# Altium footprint library SparkFun-RF.PCBLIB: 68 footprints (part 4 of 5)
Each footprint in its own frame and in the unit in brackets; x right, y up, seen from the top. Pads: shape width x height; smd on the part's side, far side on the other; paste and mask are expansions set on the pad; w line width, h text height; cw(c..) or ccw(c..) is an arc to the next point about the centre after c.
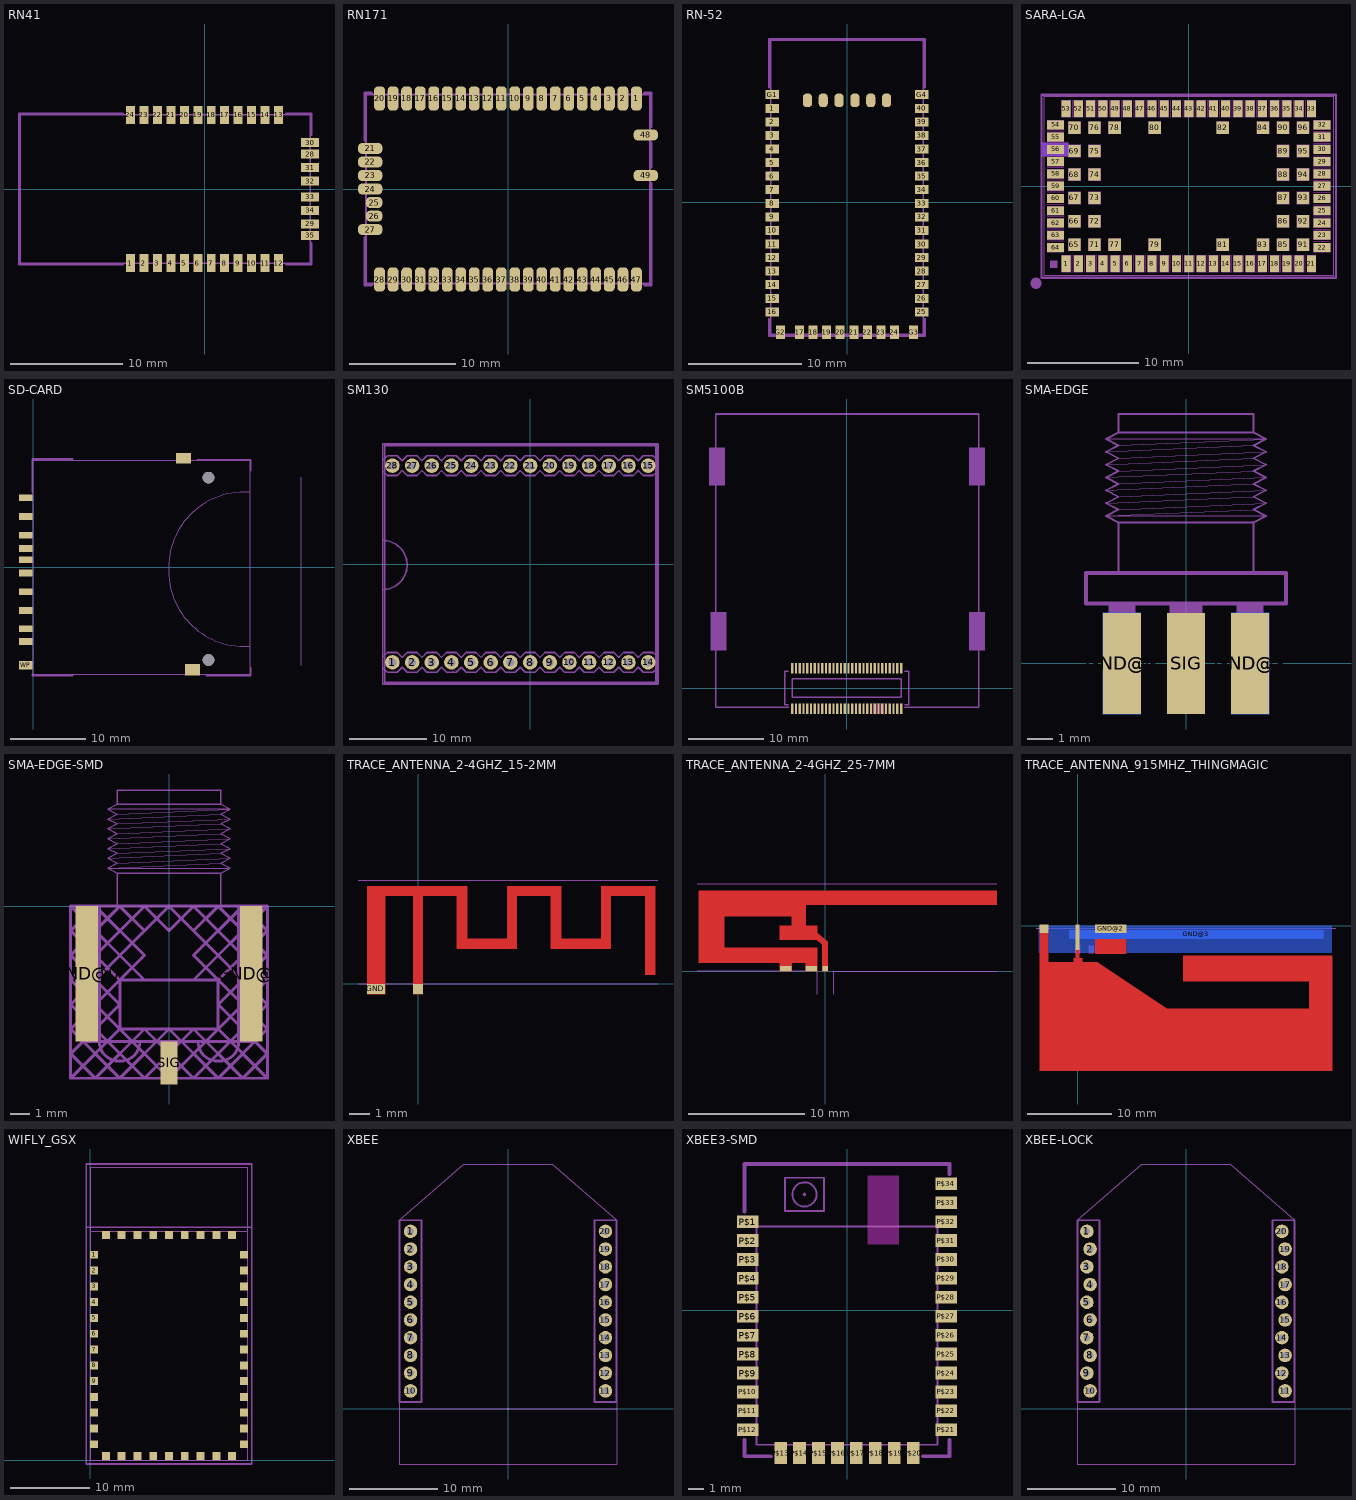
[diagram p3: the footprints below, top view; thin cyan lines are the x and y axes]

## RN41 [mil]
pads (32):
  rect 31.5x62.99 smd: 1(-259.84,-259.84) 2(-212.6,-259.84) 3(-165.35,-259.84) 4(-118.11,-259.84) 5(-70.87,-259.84) 6(-23.62,-259.84) 7(23.62,-259.84) 8(70.87,-259.84) 9(118.11,-259.84) 10(165.35,-259.84) 11(212.6,-259.84) 12(259.84,-259.84) 13(259.84,259.84) 14(212.6,259.84) 15(165.35,259.84) 16(118.11,259.84) 17(70.87,259.84) 18(23.62,259.84) 19(-23.62,259.84) 20(-70.87,259.84) 21(-118.11,259.84) 22(-165.35,259.84) 23(-212.6,259.84) 24(-259.84,259.84)
  rect 62.99x31.5 smd: 28(370.08,122.05) 29(370.08,-122.05) 30(370.08,162.29) 31(370.08,74.8) 32(370.08,27.56) 33(370.08,-27.56) 34(370.08,-74.8) 35(370.08,-162.29)
tDocu:
  lines w5: -645.67,-259.84 -645.67,259.84 370.08,259.84 370.08,-259.84 -645.67,-259.84
tPlace:
  lines w8: -286.3,-264.84 -650.67,-264.84 -650.67,264.84 -286.3,264.84 ; 285.71,-264.84 375.08,-264.84 375.08,-190.47 ; 285.71,264.84 375.08,264.84 375.08,190.47

## RN171 [mil]
pads (49):
  rrect75% 40x90 smd: 1(475,335) 2(425,335) 3(375,335) 4(325,335) 5(275,335) 6(225,335) 7(175,335) 8(125,335) 9(75,335) 10(25,335) 11(-25,335) 12(-75,335) 13(-125,335) 14(-175,335) 15(-225,335) 16(-275,335) 17(-325,335) 18(-375,335) 19(-425,335) 20(-475,335) 28(-475,-335) 29(-425,-335) 30(-375,-335) 31(-325,-335) 32(-275,-335) 33(-225,-335) 34(-175,-335) 35(-125,-335) 36(-75,-335) 37(-25,-335) 38(25,-335) 39(75,-335) 40(125,-335) 41(175,-335) 42(225,-335) 43(275,-335) 44(325,-335) 45(375,-335) 46(425,-335) 47(475,-335)
  rrect75% 90x40 smd: 21(-510,150) 22(-510,100) 23(-510,50) 24(-510,0) 27(-510,-150) 48(510,200) 49(510,50)
  rrect75% 60x40 smd: 25(-495,-50) 26(-495,-100)
Top:
  lines w12: -518,0 -500,0
tDocu:
  lines w8: -525,-350 -525,350 525,350 525,-350 -525,-350
tPlace:
  lines w10: -530,-180 -530,-355 -505,-355 ; -530,180 -530,355 -505,355 ; 505,-355 530,-355 530,20 ; 505,355 530,355 530,230 ; 530,80 530,170

## RN-52 [mil]
pads (50):
  rect 47.24x31.5 smd: 1(-259.84,327.95) 2(-259.84,280.71) 3(-259.84,233.46) 4(-259.84,186.22) 5(-259.84,138.98) 6(-259.84,91.73) 7(-259.84,44.49) 8(-259.84,-2.76) 9(-259.84,-50) 10(-259.84,-97.24) 11(-259.84,-144.49) 12(-259.84,-191.73) 13(-259.84,-238.98) 14(-259.84,-286.22) 15(-259.84,-333.46) 16(-259.84,-380.71) 25(259.84,-380.71) 26(259.84,-333.46) 27(259.84,-286.22) 28(259.84,-238.98) 29(259.84,-191.73) 30(259.84,-144.49) 31(259.84,-97.24) 32(259.84,-50) 33(259.84,-2.76) 34(259.84,44.49) 35(259.84,91.73) 36(259.84,138.98) 37(259.84,186.22) 38(259.84,233.46) 39(259.84,280.71) 40(259.84,327.95) G1(-259.84,375.2) G4(259.84,375.2)
  rect 31.5x47.24 smd: 17(-165.35,-451.57) 18(-118.11,-451.57) 19(-70.87,-451.57) 20(-23.62,-451.57) 21(23.62,-451.57) 22(70.87,-451.57) 23(118.11,-451.57) 24(165.35,-451.57) G2(-232.28,-451.57) G3(232.28,-451.18)
  rrect75% 31.5x47.24 smd: RFG1(-137.8,355.51) RFG2(-82.68,355.51) RFG3(-27.56,355.51) RFG4(27.56,355.51) RFG5(82.68,355.51) RFG6(137.8,355.51)
tDocu:
  lines w5: -265.75,-459.45 -265.75,564.17 265.75,564.17 265.75,-459.45 -265.75,-459.45
tPlace:
  lines w8: -270.75,-405.83 -270.75,-464.45 270.75,-464.45 270.75,-405.83 ; -270.75,400.55 -270.75,569.17 270.75,569.17 270.75,400.55

## SARA-LGA [mil]
pads (96):
  rect 31.5x59.06 smd paste+0: 1(-433.07,-273.62) 2(-389.76,-273.62) 3(-346.46,-273.62) 4(-303.15,-273.62) 5(-259.84,-273.62) 6(-216.54,-273.62) 7(-173.23,-273.62) 8(-129.92,-273.62) 9(-86.61,-273.62) 10(-43.31,-273.62) 11(0,-273.62) 12(43.31,-273.62) 13(86.61,-273.62) 14(129.92,-273.62) 15(173.23,-273.62) 16(216.54,-273.62) 17(259.84,-273.62) 18(303.15,-273.62) 19(346.46,-273.62) 20(389.76,-273.62) 21(433.07,-273.62) 33(433.07,273.62) 34(389.76,273.62) 35(346.46,273.62) 36(303.15,273.62) 37(259.84,273.62) 38(216.54,273.62) 39(173.23,273.62) 40(129.92,273.62) 41(86.61,273.62) 42(43.31,273.62) 43(0,273.62) 44(-43.31,273.62) 45(-86.61,273.62) 46(-129.92,273.62) 47(-173.23,273.62) 48(-216.54,273.62) 49(-259.84,273.62) 50(-303.15,273.62) 51(-346.46,273.62) 52(-389.76,273.62) 53(-433.07,273.62)
  rect 59.06x31.5 smd paste+0: 22(470.47,-216.54) 23(470.47,-173.23) 24(470.47,-129.92) 25(470.47,-86.61) 26(470.47,-43.31) 27(470.47,0) 28(470.47,43.31) 29(470.47,86.61) 30(470.47,129.92) 31(470.47,173.23) 32(470.47,216.54) 54(-470.47,216.54) 55(-470.47,173.23) 56(-470.47,129.92) 57(-470.47,86.61) 58(-470.47,43.31) 59(-470.47,0) 60(-470.47,-43.31) 61(-470.47,-86.61) 62(-470.47,-129.92) 63(-470.47,-173.23) 64(-470.47,-216.54)
  rect 43.31x43.31 smd paste+0: 65(-403.54,-206.69) 66(-403.54,-124.02) 67(-403.54,-41.34) 68(-403.54,41.34) 69(-403.54,124.02) 70(-403.54,206.69) 71(-332.68,-206.69) 72(-332.68,-124.02) 73(-332.68,-41.34) 74(-332.68,41.34) 75(-332.68,124.02) 76(-332.68,206.69) 77(-261.81,-206.69) 78(-261.81,206.69) 79(-120.08,-206.69) 80(-120.08,206.69) 81(120.08,-206.69) 82(120.08,206.69) 83(261.81,-206.69) 84(261.81,206.69) 85(332.68,-206.69) 86(332.68,-124.02) 87(332.68,-41.34) 88(332.68,41.34) 89(332.68,124.02) 90(332.68,206.69) 91(403.54,-206.69) 92(403.54,-124.02) 93(403.54,-41.34) 94(403.54,41.34) 95(403.54,124.02) 96(403.54,206.69)
Top keep-out:
  lines w0.1: -500,-194.88 -440.94,-194.88 ; -500,-151.57 -440.94,-151.57 ; -500,-108.27 -440.94,-108.27 ; -500,-64.96 -440.94,-64.96 ; -500,-21.65 -440.94,-21.65 ; -500,21.65 -440.94,21.65 ; -500,64.96 -440.94,64.96 ; -500,108.27 -440.94,108.27 ; -500,151.57 -440.94,151.57 ; -500,194.88 -440.94,194.88 ; -411.42,-303.15 -411.42,-244.09 ; -411.42,244.09 -411.42,303.15 ; -368.11,-303.15 -368.11,-244.09 ; -368.11,244.09 -368.11,303.15 ; -324.8,-303.15 -324.8,-244.09 ; -324.8,244.09 -324.8,303.15 ; -281.5,-303.15 -281.5,-244.09 ; -281.5,244.09 -281.5,303.15 ; -238.19,-303.15 -238.19,-244.09 ; -238.19,244.09 -238.19,303.15 ; -194.88,-303.15 -194.88,-244.09 ; -194.88,244.09 -194.88,303.15 ; -151.57,-303.15 -151.57,-244.09 ; -151.57,244.09 -151.57,303.15 ; -108.27,-303.15 -108.27,-244.09 ; -108.27,244.09 -108.27,303.15 ; -64.96,-303.15 -64.96,-244.09 ; -64.96,244.09 -64.96,303.15 ; -21.65,-303.15 -21.65,-244.09 ; -21.65,244.09 -21.65,303.15 ; 21.65,-303.15 21.65,-244.09 ; 21.65,244.09 21.65,303.15 ; 64.96,-303.15 64.96,-244.09 ; 64.96,244.09 64.96,303.15 ; 108.27,-303.15 108.27,-244.09 ; 108.27,244.09 108.27,303.15 ; 151.57,-303.15 151.57,-244.09 ; 151.57,244.09 151.57,303.15 ; 194.88,-303.15 194.88,-244.09 ; 194.88,244.09 194.88,303.15 ; 238.19,-303.15 238.19,-244.09 ; 238.19,244.09 238.19,303.15 ; 281.5,-303.15 281.5,-244.09 ; 281.5,244.09 281.5,303.15 ; 324.8,-303.15 324.8,-244.09 ; 324.8,244.09 324.8,303.15 ; 368.11,-303.15 368.11,-244.09 ; 368.11,244.09 368.11,303.15 ; 411.42,-303.15 411.42,-244.09 ; 411.42,244.09 411.42,303.15 ; 440.94,-194.88 500,-194.88 ; 440.94,-151.57 500,-151.57 ; 440.94,-108.27 500,-108.27 ; 440.94,-64.96 500,-64.96 ; 440.94,-21.65 500,-21.65 ; 440.94,21.65 500,21.65 ; 440.94,64.96 500,64.96 ; 440.94,108.27 500,108.27 ; 440.94,151.57 500,151.57 ; 440.94,194.88 500,194.88
Bottom keep-out:
  region: -519.68,106.3 -519.68,153.54 -425.2,153.54 -425.2,106.3
Top Paste:
  drawing of 96 lines, arcs and shapes, not listed
tDocu:
  drawing of 101 lines, arcs and shapes, not listed
tPlace:
  circle w39.37: c-539.37,-342.52 r0
  lines w8: -519.68,-322.83 -519.68,322.83 519.68,322.83 519.68,-322.83 -519.68,-322.83

## SD-CARD [mm]
pads (15):
  rect 1.8x0.9 smd: 1(-1,6.77) 2(-1,4.27) 3(-1,2.52) 4(-1,-0.73) 5(-1,-3.23) 6(-1,-5.73) 7(-1,-8.15) 8(-1,-9.85) 9(-1,9.27) CD(-1,1.02)
  round 1.55 hole 1.55 unplated: MH1(23.3,11.94) MH2(23.3,-12.32)
  rect 2x1.4 smd: SH@1(20,14.496)
  rect 2x1.527 smd: SH@2(21.15,-13.589)
  rect 1.8x1.1 smd: WP(-1,-13)
tDocu:
  lines w0.127: 35.6,-13 35.6,12 ; 28.8,-10.5 28.8,10 ; 28.8,-10.5 28.8,-14.25 0,-14.25 0,14.25 28.8,14.25 28.8,10 ; 28.8,-10.5 28,-10.5 cw(c28,-0.5) 18,-0.5 18,0 cw(c28,0) 28,10 28.8,10
  text "card lock position" at 34.9,-9.3 h1.97
tPlace:
  lines w0.254: -0.095,-14.238 -0.095,-14.4 5.239,-14.4 ; -0.095,10.019 -0.095,14.418 5.239,14.418 ; 21.849,14.318 28.9,14.318 28.9,12.9 ; 23.011,-14.4 28.9,-14.4 28.9,-13.349

## SM130 [mil]
pads (28):
  round 74 hole 40: 1(-700,-500) 2(-600,-500) 3(-500,-500) 4(-400,-500) 5(-300,-500) 6(-200,-500) 7(-100,-500) 8(0,-500) 9(100,-500) 10(200,-500) 11(300,-500) 12(400,-500) 13(500,-500) 14(600,-500) 15(600,500) 16(500,500) 17(400,500) 18(300,500) 19(200,500) 20(100,500) 21(0,500) 22(-100,500) 23(-200,500) 24(-300,500) 25(-400,500) 26(-500,500) 27(-600,500) 28(-700,500)
tDocu:
  region: -110,-510 -110,-490 -90,-490 -90,-510
  region: -210,-510 -210,-490 -190,-490 -190,-510
  region: -310,-510 -310,-490 -290,-490 -290,-510
  region: -410,-510 -410,-490 -390,-490 -390,-510
  region: -510,-510 -510,-490 -490,-490 -490,-510
  region: -610,-510 -610,-490 -590,-490 -590,-510
  region: -710,-510 -710,-490 -690,-490 -690,-510
  region: 590,-510 590,-490 610,-490 610,-510
  region: 490,-510 490,-490 510,-490 510,-510
  region: 390,-510 390,-490 410,-490 410,-510
  region: 290,-510 290,-490 310,-490 310,-510
  region: 190,-510 190,-490 210,-490 210,-510
  region: 90,-510 90,-490 110,-490 110,-510
  region: -10,-510 -10,-490 10,-490 10,-510
  region: 590,490 590,510 610,510 610,490
  region: -90,510 -90,490 -110,490 -110,510
  region: 10,510 10,490 -10,490 -10,510
  region: 110,510 110,490 90,490 90,510
  region: 210,510 210,490 190,490 190,510
  region: 310,510 310,490 290,490 290,510
  region: 410,510 410,490 390,490 390,510
  region: 510,510 510,490 490,490 490,510
  region: -690,510 -690,490 -710,490 -710,510
  region: -590,510 -590,490 -610,490 -610,510
  region: -490,510 -490,490 -510,490 -510,510
  region: -390,510 -390,490 -410,490 -410,510
  region: -290,510 -290,490 -310,490 -310,510
  region: -190,510 -190,490 -210,490 -210,510
  lines w8: -740,-602.5 640,-602.5 640,602.5 -740,602.5 -740,-602.5
tPlace:
  drawing of 179 lines, arcs and shapes, not listed
  text "1" at -700,-595 h42.5
  text "RFVCC" at -700,-440 h34
  text "GND" at 600,-440 h34
  text "RSVD" at 500,-440 h34
  text "TX" at 400,-440 h34
  text "RX" at 300,-440 h34
  text "SDA" at 200,-440 h34
  text "SCL" at 100,-440 h34
  text "RSVD" at 600,450 h34
  text "OUT_OK" at 500,450 h34
  text "OUT_ERR" at 400,450 h34
  text "RESET" at 300,450 h34
  text "IN1" at 200,450 h34
  text "IN2" at 100,450 h34
  text "OUT1" at 0,450 h34
  text "OUT2" at -100,450 h34
  text "RFGND" at -200,450 h34
  text "ANT1" at -300,450 h34
  text "RFGND" at -400,450 h34
  text "ANT2" at -500,450 h34
  text "RFGND" at -600,450 h34
  text "VCC" at -700,450 h34

## SM5100B [mm]
pads (60):
  rect 0.3x1.4 smd paste+0: 1(7.25,-2.68) 2(7.25,2.68) 3(6.75,-2.68) 4(6.75,2.68) 5(6.25,-2.68) 6(6.25,2.68) 7(5.75,-2.68) 8(5.75,2.68) 9(5.25,-2.68) 10(5.25,2.68) 11(4.75,-2.68) 12(4.75,2.68) 13(4.25,-2.68) 14(4.25,2.68) 15(3.75,-2.68) 16(3.75,2.68) 17(3.25,-2.68) 18(3.25,2.68) 19(2.75,-2.68) 20(2.75,2.68) 21(2.25,-2.68) 22(2.25,2.68) 23(1.75,-2.68) 24(1.75,2.68) 25(1.25,-2.68) 26(1.25,2.68) 27(0.75,-2.68) 28(0.75,2.68) 29(0.25,-2.68) 30(0.25,2.68) 31(-0.25,-2.68) 32(-0.25,2.68) 33(-0.75,-2.68) 34(-0.75,2.68) 35(-1.25,-2.68) 36(-1.25,2.68) 37(-1.75,-2.68) 38(-1.75,2.68) 39(-2.25,-2.68) 40(-2.25,2.68) 41(-2.75,-2.68) 42(-2.75,2.68) 43(-3.25,-2.68) 44(-3.25,2.68) 45(-3.75,-2.68) 46(-3.75,2.68) 47(-4.25,-2.68) 48(-4.25,2.68) 49(-4.75,-2.68) 50(-4.75,2.68) 51(-5.25,-2.68) 52(-5.25,2.68) 53(-5.75,-2.68) 54(-5.75,2.68) 55(-6.25,-2.68) 56(-6.25,2.68) 57(-6.75,-2.68) 58(-6.75,2.68) 59(-7.25,-2.68) 60(-7.25,2.68)
Top keep-out:
  region: 4.953,-1.981 4.953,-3.408 5.032,-3.408 5.032,-1.981
  region: 4.438,-1.981 4.557,-1.981 4.557,-2.021 4.557,-3.368 4.438,-3.368
  region: 4.042,-1.981 4.042,-3.368 3.962,-3.368 3.962,-1.981
  region: 3.447,-1.981 3.566,-1.981 3.566,-3.368 3.447,-3.368 3.447,-2.021
Top Paste:
  drawing of 60 lines, arcs and shapes, not listed
Milling:
  region: -18.1,5.1 -16,5.1 -16,10.1 -18.1,10.1
  region: 16.3,5.1 18.4,5.1 18.4,10.1 16.3,10.1
  region: 16.3,27 18.4,27 18.4,32 16.3,32
  region: -18.3,27 -16.2,27 -16.2,32 -18.3,32
tPlace:
  lines w0.203: -7.75,-2.2 -8.25,-2.2 -8.25,2.3 -7.75,2.3 ; -7.673,-2.5 -17.4,-2.5 -17.4,36.5 17.6,36.5 17.6,-2.5 7.746,-2.5 ; 7.75,-2.2 8.25,-2.2 8.25,2.3 7.75,2.3 ; -7.25,-1.2 7.25,-1.2 7.25,1.3 -7.25,1.3 -7.25,-1.2

## SMA-EDGE [mm]
pads (5):
  rect 1.5x4 smd paste+0: GND@0(-2.54,0) GND@1(2.54,0) SIG(0,0)
  rect 1.5x4 smd far side paste+0: GND@2(-2.54,0) GND@3(2.54,0)
tDocu:
  region: -3.05,-1.519 -3.05,2.381 -2.01,2.381 -2.01,-1.519
  region: -0.635,-1.519 -0.635,2.381 0.635,2.381 0.635,-1.519
  region: 2.01,-1.519 2.01,2.381 3.05,2.381 3.05,-1.519
  lines w0.025: -3.175,6.35 2.667,6.604 ; -3.175,6.858 2.667,7.112 ; -3.175,7.366 2.667,7.62 ; -3.175,7.874 2.667,8.128 ; -3.175,8.382 2.667,8.636 ; -3.175,8.89 3.175,8.89 -2.667,8.636 ; -2.667,6.096 3.175,6.35 ; -2.667,6.604 3.175,6.858 ; -2.667,7.112 3.175,7.366 ; -2.667,7.62 3.175,7.874 ; -2.667,8.128 3.175,8.382 ; 2.667,6.096 -3.175,5.842 3.175,5.842
  lines w0.076: -2.667,3.581 -2.667,5.588 ; 2.667,3.556 2.667,5.588 ; -2.667,5.588 -3.175,5.842 -2.667,6.096 -3.175,6.35 -2.667,6.604 -3.175,6.858 -2.667,7.112 -3.175,7.366 -2.667,7.62 -3.175,7.874 -2.667,8.128 -3.175,8.382 -2.667,8.636 -3.175,8.89 -2.667,9.144 ; -2.667,5.588 2.667,5.588 ; -2.667,9.144 -2.667,9.881 2.667,9.881 2.667,9.144 ; -2.667,9.144 2.667,9.144 ; 2.667,5.588 3.175,5.842 2.667,6.096 3.175,6.35 2.667,6.604 3.175,6.858 2.667,7.112 3.175,7.366 2.667,7.62 3.175,7.874 2.667,8.128 3.175,8.382 2.667,8.636 3.175,8.89 2.667,9.144
  lines w0.152: -3.965,2.381 3.965,2.381 3.965,3.581 -3.965,3.581 -3.965,2.381

## SMA-EDGE-SMD [mm]
pads (3):
  rect 1.15x7 smd paste+0: GND@0(-4.25,-3.5) GND@1(4.25,-3.5)
  rect 0.9x2.2 smd paste+0: SIG(0,-8.1)
Top Paste:
  region: -0.55,-9.39 -0.55,-6.99 0.55,-6.99 0.55,-9.39
  region: -4.93,-7 -4.93,0 -3.68,0 -3.68,-7
  region: 3.68,-7 3.68,0 4.93,0 4.93,-7
Milling:
  lines w0.152: -3.6,0 -3.6,-7 ccw(c-2.6,-7) -2.6,-8 -2.5,-8 ccw(c-2.5,-7) -1.5,-7 1.5,-7 ccw(c2.5,-7) 2.5,-8 2.62,-8 ccw(c2.62,-7.02) 3.6,-7.02 ; 3.6,-7 3.6,0
  text "Route" at 0,-2.117 h0.78
  text "Out" at 0,-2.867 h0.78
tDocu:
  region: 0.38,-7 0.38,-9 -0.38,-9 -0.38,-7
  lines w0.025: -3.175,2.469 2.667,2.723 ; -3.175,2.977 2.667,3.231 ; -3.175,3.485 2.667,3.739 ; -3.175,3.993 2.667,4.247 ; -3.175,4.501 2.667,4.755 ; -3.175,5.009 3.175,5.009 -2.667,4.755 ; -2.667,2.215 3.175,2.469 ; -2.667,2.723 3.175,2.977 ; -2.667,3.231 3.175,3.485 ; -2.667,3.739 3.175,3.993 ; -2.667,4.247 3.175,4.501 ; 2.667,2.215 -3.175,1.961 3.175,1.961
  lines w0.076: -2.667,0 -2.667,1.707 ; 2.667,0 2.667,1.707 ; -2.667,1.707 -3.175,1.961 -2.667,2.215 -3.175,2.469 -2.667,2.723 -3.175,2.977 -2.667,3.231 -3.175,3.485 -2.667,3.739 -3.175,3.993 -2.667,4.247 -3.175,4.501 -2.667,4.755 -3.175,5.009 -2.667,5.263 ; -2.667,1.707 2.667,1.707 ; -2.667,5.263 -2.667,6 2.667,6 2.667,5.263 ; -2.667,5.263 2.667,5.263 ; 2.667,1.707 3.175,1.961 2.667,2.215 3.175,2.469 2.667,2.723 3.175,2.977 2.667,3.231 3.175,3.485 2.667,3.739 3.175,3.993 2.667,4.247 3.175,4.501 2.667,4.755 3.175,5.009 2.667,5.263
  lines w0.152: -4.5,-7 4.5,-7 4.5,0 2.667,0 -2.667,0 -4.5,0 -4.5,-7
Document:
  lines w0.152: -5.08,-8.89 -5.08,-7.62 ; -5.08,-8.89 -3.81,-8.89 ; -5.08,-8.89 -2.54,-6.35 ; -5.08,-7.62 -5.08,-6.35 ; -5.08,-7.62 -2.54,-5.08 ; -5.08,-7.62 -3.81,-8.89 ; -5.08,-6.35 -5.08,-5.08 ; -5.08,-6.35 -2.54,-3.81 ; -5.08,-6.35 -2.54,-8.89 ; -5.08,-5.08 -5.08,-3.81 ; -5.08,-5.08 -1.27,-1.27 ; -5.08,-5.08 -1.27,-8.89 ; -5.08,-3.81 -5.08,-2.54 ; -5.08,-3.81 -1.27,0 ; -5.08,-3.81 -2.54,-6.35 ; -5.08,-2.54 -5.08,-1.27 ; -5.08,-2.54 -2.54,0 ; -5.08,-2.54 -2.54,-5.08 ; -5.08,-1.27 -5.08,0 ; -5.08,-1.27 -3.81,0 ; -5.08,-1.27 -2.54,-3.81 ; -5.08,0 -3.81,0 ; -5.08,0 -1.27,-3.81 ; -3.81,-8.89 -2.54,-8.89 ; -3.81,-8.89 -1.27,-6.35 ; -3.81,0 -2.54,0 ; -3.81,0 -1.27,-2.54 -2.54,-3.81 ; -2.54,-8.89 -1.27,-8.89 ; -2.54,-8.89 0,-6.35 ; -2.54,-6.35 -2.54,-5.08 ; -2.54,-6.35 -1.27,-6.35 ; -2.54,-6.35 0,-8.89 ; -2.54,-5.08 -2.54,-3.81 ; -2.54,-3.81 -1.27,-3.81 ; -2.54,0 -1.27,0 ; -2.54,0 -1.27,-1.27 ; -1.27,-8.89 0,-8.89 ; -1.27,-8.89 1.27,-6.35 ; -1.27,-6.35 0,-6.35 ; -1.27,-6.35 1.27,-8.89 ; -1.27,-3.81 1.27,-3.81 ; -1.27,-1.27 0,0 ; -1.27,0 0,0 ; -1.27,0 0,-1.27 1.27,0 ; 0,-8.89 1.27,-8.89 ; 0,-8.89 2.54,-6.35 ; 0,-6.35 1.27,-6.35 ; 0,-6.35 2.54,-8.89 ; 0,0 1.27,0 ; 0,0 1.27,-1.27 ; 1.27,-8.89 2.54,-8.89 ; 1.27,-8.89 5.08,-5.08 ; 1.27,-6.35 2.54,-6.35 ; 1.27,-6.35 3.81,-8.89 ; 1.27,-3.81 5.08,0 ; 1.27,-3.81 2.54,-3.81 ; 1.27,-1.27 5.08,-5.08 ; 1.27,-1.27 2.54,0 ; 1.27,0 2.54,0 ; 1.27,0 5.08,-3.81 ; 2.54,-8.89 3.81,-8.89 ; 2.54,-8.89 5.08,-6.35 ; 2.54,-6.35 5.08,-3.81 ; 2.54,-6.35 2.54,-5.08 ; 2.54,-6.35 5.08,-8.89 ; 2.54,-5.08 5.08,-2.54 ; 2.54,-5.08 2.54,-3.81 ; 2.54,-5.08 5.08,-7.62 ; 2.54,-3.81 5.08,-1.27 ; 2.54,-3.81 1.27,-2.54 3.81,0 ; 2.54,-3.81 5.08,-6.35 ; 2.54,0 3.81,0 ; 2.54,0 5.08,-2.54 ; 3.81,-8.89 5.08,-8.89 ; 3.81,-8.89 5.08,-7.62 ; 3.81,0 5.08,0 ; 3.81,0 5.08,-1.27 ; 5.08,-8.89 5.08,-7.62 ; 5.08,-7.62 5.08,-6.35 ; 5.08,-6.35 5.08,-5.08 ; 5.08,-5.08 5.08,-3.81 ; 5.08,-3.81 5.08,-2.54 ; 5.08,-2.54 5.08,-1.27 ; 5.08,-1.27 5.08,0
  text "Suggested" at 0,-4.394 h0.47
  text "Cutout Polygon" at 0,-4.851 h0.47
  text "For Any Internal" at 0,-5.309 h0.47
  text "Power Layers" at 0,-5.766 h0.47

## TRACE_ANTENNA_2-4GHZ_15-2MM [mm]
pads (2):
  rect 0.5x0.5 smd paste+0 mask+0: ANT(0,-0.25)
  rect 0.9x0.5 smd paste+0 mask+0: GND(-2.1,-0.25)
Top:
  region: -0.25,-0.5 -0.25,4.4 -1.65,4.4 -1.65,-0.5 -2.55,-0.5 -2.55,4.9 2.45,4.9 2.45,2.26 4.45,2.26 4.45,4.9 7.15,4.9 7.15,2.26 9.15,2.26 9.15,4.9 11.85,4.9 11.85,0.46 11.35,0.46 11.35,4.4 9.65,4.4 9.65,1.76 6.65,1.76 6.65,4.4 4.95,4.4 4.95,1.76 1.95,1.76 1.95,4.4 0.25,4.4 0.25,-0.5
tDocu:
  lines w0.05: -3,0 12,0 ; -3,5.2 12,5.2
  text "Ground Plane" at 1,-0.8 h0.54
  text "Board Edge" at 1.5,5.5 h0.54

## TRACE_ANTENNA_2-4GHZ_25-7MM [mm]
pads (3):
  rect 0.46x0.46 smd paste+0 mask+0: ANT(0,0.23)
  rect 1x0.46 smd paste+0 mask+0: GND(-1.18,0.23) GND2(-3.38,0.23)
Top:
  region: -0.23,0 -0.23,2.28 -0.73,2.69 -3.88,2.69 -3.88,3.9 -2.88,3.9 -2.88,4.7 -8.68,4.7 -8.68,2.03 -0.68,2.03 -0.68,0 -1.68,0 -1.68,0.7 -2.88,0.7 -2.88,0 -3.88,0 -3.88,0.74 -10.86,0.74 -10.86,6.91 14.72,6.91 14.72,5.7 -1.68,5.7 -1.68,3.9 -0.68,3.9 -0.68,3.29 0.23,2.53 0.23,0
tDocu:
  lines w0.1: -11,0 -0.68,0 -0.68,-2 ; -11,7.52 14.75,7.52 ; 0.68,-2 0.68,0 14.75,0
  text "Ground Plane" at -11.049,-1.397 h0.76
  text "Ground Plane" at 2.921,-1.397 h0.76
  text "Board edge" at -4.449,7.703 h0.76

## TRACE_ANTENNA_915MHZ_THINGMAGIC [mm]
pads (4):
  rect 0.44x3 smd paste+0 mask+0: ANT(-0.006,-1.315)
  rect 1.02x1 smd paste+0 mask+0: GND@1(-3.966,-0.315)
  rect 3.677x1 smd paste+0 mask+0: GND@2(3.909,-0.315)
  rect 30x1 smd far side paste+0 mask+0: GND@3(14,-1)
Top:
  region: 12.469,-3.539 30.089,-3.539 30.089,-17.087 -4.462,-17.087 -4.462,-0.455 -3.469,-0.455 -3.469,-4.288 -0.449,-4.288 -0.45,-3.8 -0.21,-3.8 -0.21,-2.33 0.2,-2.33 0.2,-3.8 0.526,-3.801 0.526,-4.288 2.337,-4.288 10.58,-9.782 10.587,-9.787 27.341,-9.787 27.339,-9.775 27.339,-6.539 12.469,-6.539
  region: 2.08,-0.23 2.08,-3.26 5.735,-3.26 5.735,-0.23
Bottom:
  region: -4.6,0 -4.6,-3.15 30,-3.15 30,0
tDocu:
  region: -0.29,-2.33 0.29,-2.33 0.29,-3.2 -0.29,-3.2
  region: 1.31,-2.33 1.89,-2.33 1.89,-3.2 1.31,-3.2
  lines w0.127: -4.914,-0.288 30.519,-0.288
  text "GND Pour Edge" at 16.803,-0.034 h0.39

## WIFLY_GSX [mm]
pads (44):
  rect 1x1 smd: 1(0.5,26) 2(0.5,24) 3(0.5,22) 4(0.5,20) 5(0.5,18) 6(0.5,16) 7(0.5,14) 8(0.5,12) 9(0.5,10) 10(0.5,8) 11(0.5,6) 12(0.5,4) 13(0.5,2) 14(2,0.5) 15(4,0.5) 16(6,0.5) 17(8,0.5) 18(10,0.5) 19(12,0.5) 20(14,0.5) 21(16,0.5) 22(18,0.5) 23(19.5,2) 24(19.5,4) 25(19.5,6) 26(19.5,8) 27(19.5,10) 28(19.5,12) 29(19.5,14) 30(19.5,16) 31(19.5,18) 32(19.5,20) 33(19.5,22) 34(19.5,24) 35(19.5,26) 36(18,28.5) 37(16,28.5) 38(14,28.5) 39(12,28.5) 40(10,28.5) 41(8,28.5) 42(6,28.5) 43(4,28.5) 44(2,28.5)
tDocu:
  lines w0.127: 0,29 0,37 20,37 20,29 ; 0,29 0,0 20,0 20,29 ; 0,29 20,29
tPlace:
  lines w0.203: -0.5,29.5 -0.5,-0.5 20.5,-0.5 20.5,29.5 ; -0.5,29.5 -0.5,37.5 20.5,37.5 20.5,29.5 ; -0.5,29.5 20.5,29.5

## XBEE [mil]
pads (20):
  round 60 hole 31.5: 1(-433.07,787.4) 2(-433.07,708.66) 3(-433.07,629.92) 4(-433.07,551.18) 5(-433.07,472.44) 6(-433.07,393.7) 7(-433.07,314.96) 8(-433.07,236.22) 9(-433.07,157.48) 10(-433.07,78.74) 11(433.07,78.74) 12(433.07,157.48) 13(433.07,236.22) 14(433.07,314.96) 15(433.07,393.7) 16(433.07,472.44) 17(433.07,551.18) 18(433.07,629.92) 19(433.07,708.66) 20(433.07,787.4)
tDocu:
  lines w5: -482.28,29.53 -482.28,0 ; -482.28,836.61 -196.85,1086.61 196.85,1086.61 482.28,836.61 ; 482.28,29.53 482.28,0 ; -482.28,0 482.28,0 ; -482.28,0 -482.28,-246.06 482.28,-246.06 482.28,0
tPlace:
  lines w8: -482.28,29.53 -482.28,836.61 -383.86,836.61 -383.86,29.53 -482.28,29.53 ; 383.86,29.53 482.28,29.53 482.28,836.61 383.86,836.61 383.86,29.53
  text "1" at -374.02,787.4 h34

## XBEE3-SMD [mil]
pads (34):
  rect 57x33 smd paste+0: P$1(-258,230.2) P$2(-258,181) P$3(-258,131.8) P$4(-258,82.6) P$5(-258,33.4) P$6(-258,-15.8) P$7(-258,-65) P$8(-258,-114.2) P$9(-258,-163.4) P$10(-258,-212.6) P$11(-258,-261.8) P$12(-258,-311) P$21(258,-311) P$22(258,-261.8) P$23(258,-212.6) P$24(258,-163.4) P$25(258,-114.2) P$26(258,-65) P$27(258,-15.8) P$28(258,33.4) P$29(258,82.6) P$30(258,131.8) P$31(258,181) P$32(258,230.2) P$33(258,279.4) P$34(258,328.6)
  rect 33x57 smd paste+0: P$13(-172.5,-371.5) P$14(-123.3,-371.5) P$15(-74.1,-371.5) P$16(-24.9,-371.5) P$17(24.3,-371.5) P$18(73.5,-371.5) P$19(122.7,-371.5) P$20(171.9,-371.5)
Top:
  text "RF Test Points" at 105,180 h24.8
Top keep-out:
  region: 54.5,171.5 54.5,349.5 134.5,349.5 134.5,171.5
Top Paste:
  region: -285,217 -285,243.4 -236.63,243.4 -236.63,217
  region: -285,167.8 -285,194.2 -236.63,194.2 -236.63,167.8
  region: -285,118.6 -285,145 -236.63,145 -236.63,118.6
  region: -285,69.4 -285,95.8 -236.63,95.8 -236.63,69.4
  region: -285,20.2 -285,46.6 -236.63,46.6 -236.63,20.2
  region: -285,-29 -285,-2.6 -236.63,-2.6 -236.63,-29
  region: -285,-78.2 -285,-51.8 -236.63,-51.8 -236.63,-78.2
  region: -285,-127.4 -285,-101 -236.63,-101 -236.63,-127.4
  region: -285,-176.6 -285,-150.2 -236.63,-150.2 -236.63,-176.6
  region: -285,-225.8 -285,-199.4 -236.63,-199.4 -236.63,-225.8
  region: -285,-275 -285,-248.6 -236.63,-248.6 -236.63,-275
  region: -285,-324.2 -285,-297.8 -236.63,-297.8 -236.63,-324.2
  region: 233.81,315.4 233.81,341.8 282.19,341.8 282.19,315.4
  region: 233.81,266.2 233.81,292.6 282.19,292.6 282.19,266.2
  region: 233.81,217 233.81,243.4 282.19,243.4 282.19,217
  region: 233.81,167.8 233.81,194.2 282.19,194.2 282.19,167.8
  region: 233.81,118.6 233.81,145 282.19,145 282.19,118.6
  region: 233.81,69.4 233.81,95.8 282.19,95.8 282.19,69.4
  region: 233.81,20.2 233.81,46.6 282.19,46.6 282.19,20.2
  region: 233.81,-29 233.81,-2.6 282.19,-2.6 282.19,-29
  region: 233.81,-78.2 233.81,-51.8 282.19,-51.8 282.19,-78.2
  region: 233.81,-127.4 233.81,-101 282.19,-101 282.19,-127.4
  region: 233.81,-176.6 233.81,-150.2 282.19,-150.2 282.19,-176.6
  region: 233.81,-225.8 233.81,-199.4 282.19,-199.4 282.19,-225.8
  region: 233.81,-275 233.81,-248.6 282.19,-248.6 282.19,-275
  region: 233.81,-324.2 233.81,-297.8 282.19,-297.8 282.19,-324.2
  region: -185.7,-395.69 -185.7,-347.31 -159.3,-347.31 -159.3,-395.69
  region: -136.5,-395.69 -136.5,-347.31 -110.1,-347.31 -110.1,-395.69
  region: -87.3,-395.69 -87.3,-347.31 -60.9,-347.31 -60.9,-395.69
  region: -38.1,-395.69 -38.1,-347.31 -11.7,-347.31 -11.7,-395.69
  region: 11.1,-395.69 11.1,-347.31 37.5,-347.31 37.5,-395.69
  region: 60.3,-395.69 60.3,-347.31 86.7,-347.31 86.7,-395.69
  region: 109.5,-395.69 109.5,-347.31 135.9,-347.31 135.9,-395.69
  region: 158.7,-395.69 158.7,-347.31 185.1,-347.31 185.1,-395.69
tDocu:
  circle w5: c-110.59,300.83 r31.5
  region: -110.59,296.89 -111.37,296.89 -112.82,297.49 -113.93,298.6 -114.53,300.05 -114.53,300.83 -114.53,301.61 -113.93,303.06 -112.82,304.16 -111.37,304.76 -110.59,304.76 -109.81,304.76 -108.36,304.16 -107.25,303.06 -106.65,301.61 -106.65,300.83 -106.65,300.05 -107.25,298.6 -108.36,297.49 -109.81,296.89 -110.59,296.89
  lines w5: -235,-350 235,-350 235,218 -235,218 -235,-350 ; -161.18,257.32 -60,257.32 -60,344.33 -161.18,344.33 -161.18,257.32
tPlace:
  lines w10: -266.5,-337 -266.5,-380 -198,-380 ; -266.5,255.8 -266.5,380 266.5,380 266.5,354 ; 198,-380 266.5,-380 266.5,-337

## XBEE-LOCK [mil]
pads (20):
  round 60 hole 29: 1(-440.07,787.4) 2(-426.07,708.66) 3(-440.07,629.92) 4(-426.07,551.18) 5(-440.07,472.44) 6(-426.07,393.7) 7(-440.07,314.96) 8(-426.07,236.22) 9(-440.07,157.48) 10(-426.07,78.74) 11(440.07,78.74) 12(426.07,157.48) 13(440.07,236.22) 14(426.07,314.96) 15(440.07,393.7) 16(426.07,472.44) 17(440.07,551.18) 18(426.07,629.92) 19(440.07,708.66) 20(426.07,787.4)
tDocu:
  region: -437,68 -437,88 -429,88 -429,68
  region: -437,147 -437,167 -429,167 -429,147
  region: -437,225 -437,245 -429,245 -429,225
  region: -437,304 -437,324 -429,324 -429,304
  region: -437,383 -437,403 -429,403 -429,383
  region: -437,463 -437,483 -429,483 -429,463
  region: -437,541 -437,561 -429,561 -429,541
  region: -437,619 -437,639 -429,639 -429,619
  region: -437,698 -437,718 -429,718 -429,698
  region: -437,777 -437,797 -429,797 -429,777
  region: 429,68 429,88 437,88 437,68
  region: 429,147 429,167 437,167 437,147
  region: 429,225 429,245 437,245 437,225
  region: 429,304 429,324 437,324 437,304
  region: 429,383 429,403 437,403 437,383
  region: 429,463 429,483 437,483 437,463
  region: 429,541 429,561 437,561 437,541
  region: 429,619 429,639 437,639 437,619
  region: 429,698 429,718 437,718 437,698
  region: 429,777 429,797 437,797 437,777
  lines w5: -482.28,29.53 -482.28,0 ; -482.28,836.61 -196.85,1086.61 196.85,1086.61 482.28,836.61 ; 482.28,29.53 482.28,0 ; -482.28,0 482.28,0 ; -482.28,0 -482.28,-246.06 482.28,-246.06 482.28,0
tPlace:
  lines w8: -482.28,29.53 -482.28,836.61 -383.86,836.61 -383.86,29.53 -482.28,29.53 ; 383.86,29.53 482.28,29.53 482.28,836.61 383.86,836.61 383.86,29.53
  text "1" at -374.02,787.4 h34